# EAGLE library part ISA-SLOT (library homepi)
ISA SLOT
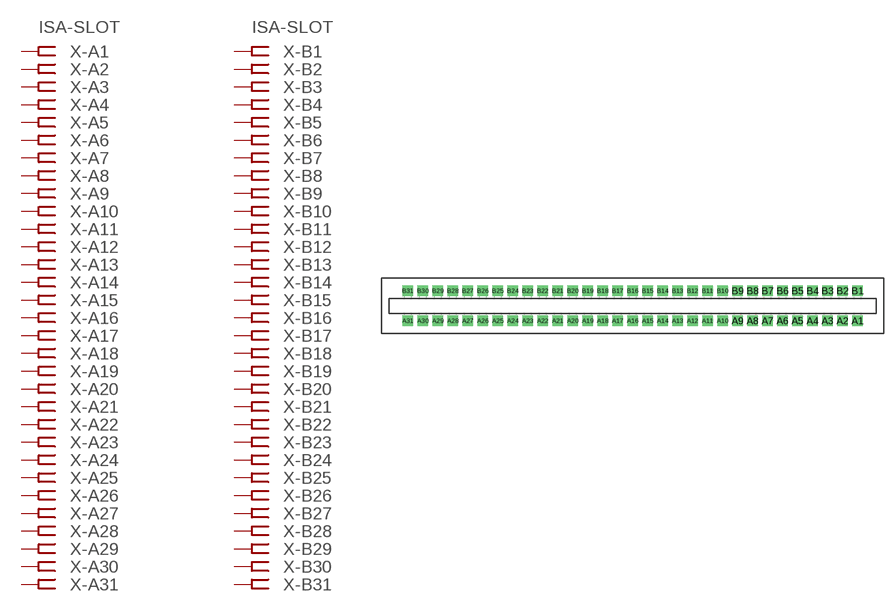
[diagram p1: symbol with the pads of ISA-16; footprint ISA-16]

Designator prefix X; gates -A2=FEMREC -A3=FEMREC -A4=FEMREC -A5=FEMREC -A6=FEMREC -A7=FEMREC -A8=FEMREC -A9=FEMREC -A10=FEMREC -A11=FEMREC -A12=FEMREC -A13=FEMREC -A14=FEMREC -A15=FEMREC -A16=FEMREC -A17=FEMREC -A18=FEMREC -A19=FEMREC -A20=FEMREC -A21=FEMREC -A22=FEMREC -A23=FEMREC -A24=FEMREC -A25=FEMREC -A26=FEMREC -A27=FEMREC -A28=FEMREC -A29=FEMREC -A30=FEMREC -A31=FEMREC -B2=FEMREC -B3=FEMREC -B4=FEMREC -B5=FEMREC -B6=FEMREC -B7=FEMREC -B8=FEMREC -B9=FEMREC -B10=FEMREC -B11=FEMREC -B12=FEMREC -B13=FEMREC -B14=FEMREC -B15=FEMREC -B16=FEMREC -B17=FEMREC -B18=FEMREC -B19=FEMREC -B20=FEMREC -B21=FEMREC -B22=FEMREC -B23=FEMREC -B24=FEMREC -B25=FEMREC -B26=FEMREC -B27=FEMREC -B28=FEMREC -B29=FEMREC -B30=FEMREC -B31=FEMREC -A1=FEMRVAL -B1=FEMRVAL

## ISA-SLOT  [ISA-16]
A1  -A1:P  pas
A2  -A2:P  pas
A3  -A3:P  pas
A4  -A4:P  pas
A5  -A5:P  pas
A6  -A6:P  pas
A7  -A7:P  pas
A8  -A8:P  pas
A9  -A9:P  pas
A10  -A10:P  pas
A11  -A11:P  pas
A12  -A12:P  pas
A13  -A13:P  pas
A14  -A14:P  pas
A15  -A15:P  pas
A16  -A16:P  pas
A17  -A17:P  pas
A18  -A18:P  pas
A19  -A19:P  pas
A20  -A20:P  pas
A21  -A21:P  pas
A22  -A22:P  pas
A23  -A23:P  pas
A24  -A24:P  pas
A25  -A25:P  pas
A26  -A26:P  pas
A27  -A27:P  pas
A28  -A28:P  pas
A29  -A29:P  pas
A30  -A30:P  pas
A31  -A31:P  pas
B1  -B1:P  pas
B2  -B2:P  pas
B3  -B3:P  pas
B4  -B4:P  pas
B5  -B5:P  pas
B6  -B6:P  pas
B7  -B7:P  pas
B8  -B8:P  pas
B9  -B9:P  pas
B10  -B10:P  pas
B11  -B11:P  pas
B12  -B12:P  pas
B13  -B13:P  pas
B14  -B14:P  pas
B15  -B15:P  pas
B16  -B16:P  pas
B17  -B17:P  pas
B18  -B18:P  pas
B19  -B19:P  pas
B20  -B20:P  pas
B21  -B21:P  pas
B22  -B22:P  pas
B23  -B23:P  pas
B24  -B24:P  pas
B25  -B25:P  pas
B26  -B26:P  pas
B27  -B27:P  pas
B28  -B28:P  pas
B29  -B29:P  pas
B30  -B30:P  pas
B31  -B31:P  pas

## Footprint ISA-16 (pad centres in mm)
ISA SLOT
drill 1.2 pad 1.778 square: A1 38.1,-2.54; A2 35.56,-2.54; A3 33.02,-2.54; A4 30.48,-2.54; A5 27.94,-2.54; A6 25.4,-2.54; A7 22.86,-2.54; A8 20.32,-2.54; A9 17.78,-2.54; A10 15.24,-2.54; A11 12.7,-2.54; A12 10.16,-2.54; A13 7.62,-2.54; A14 5.08,-2.54; A15 2.54,-2.54; A16 0,-2.54; A17 -2.54,-2.54; A18 -5.08,-2.54; A19 -7.62,-2.54; A20 -10.16,-2.54; A21 -12.7,-2.54; A22 -15.24,-2.54; A23 -17.78,-2.54; A24 -20.32,-2.54; A25 -22.86,-2.54; A26 -25.4,-2.54; A27 -27.94,-2.54; A28 -30.48,-2.54; A29 -33.02,-2.54; A30 -35.56,-2.54; A31 -38.1,-2.54; B1 38.1,2.54; B2 35.56,2.54; B3 33.02,2.54; B4 30.48,2.54; B5 27.94,2.54; B6 25.4,2.54; B7 22.86,2.54; B8 20.32,2.54; B9 17.78,2.54; B10 15.24,2.54; B11 12.7,2.54; B12 10.16,2.54; B13 7.62,2.54; B14 5.08,2.54; B15 2.54,2.54; B16 0,2.54; B17 -2.54,2.54; B18 -5.08,2.54; B19 -7.62,2.54; B20 -10.16,2.54; B21 -12.7,2.54; B22 -15.24,2.54; B23 -17.78,2.54; B24 -20.32,2.54; B25 -22.86,2.54; B26 -25.4,2.54; B27 -27.94,2.54; B28 -30.48,2.54; B29 -33.02,2.54; B30 -35.56,2.54; B31 -38.1,2.54